# Altium integrated library WE-FLEX_rev15a.intlib: 25 symbols
Pins are listed as number, name and electrical type; pins without a type are passive.

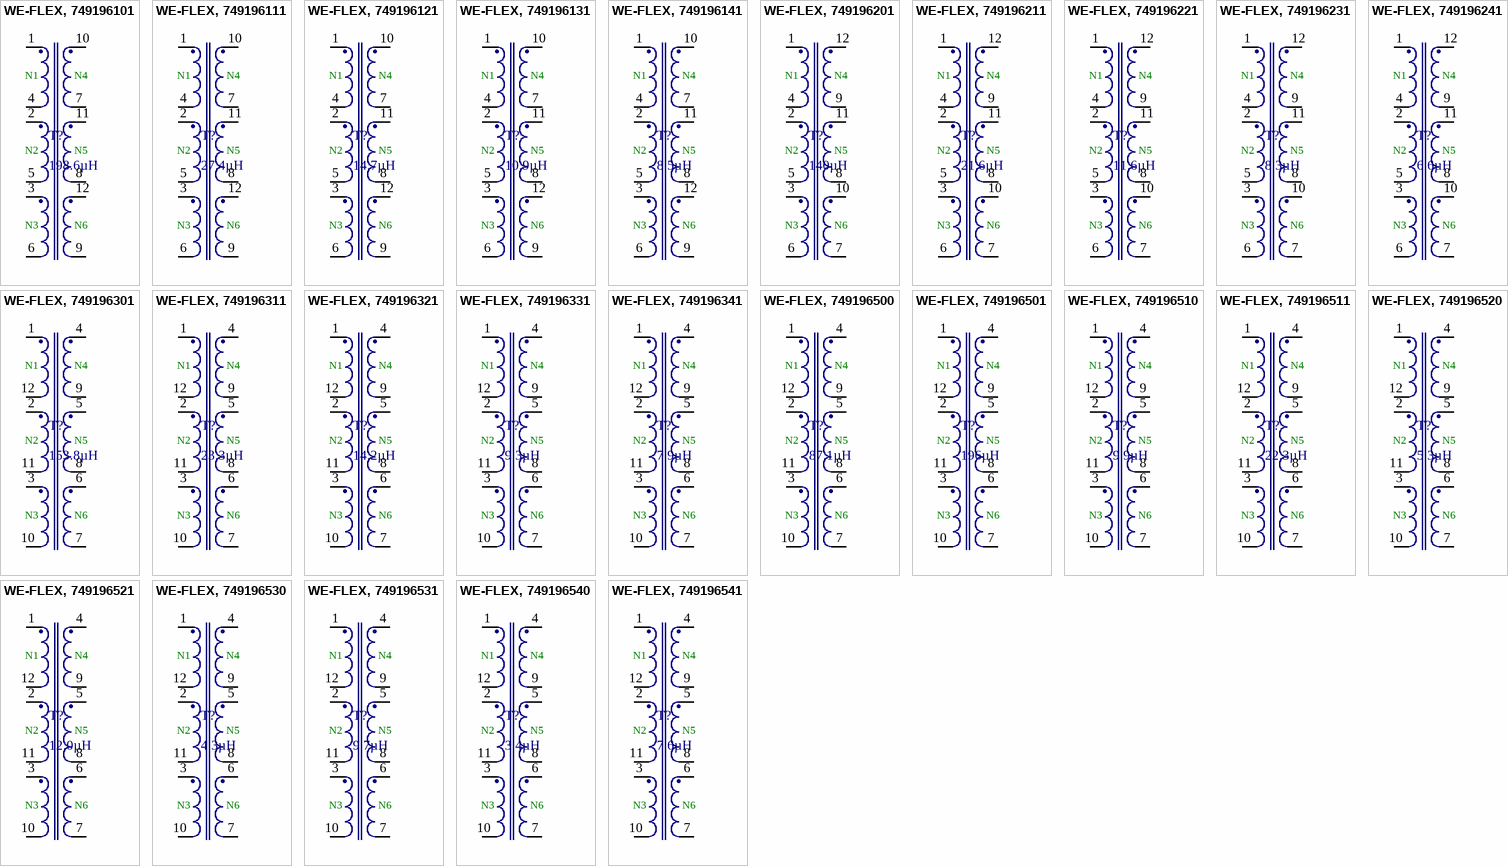
[diagram p0: symbols WE-FLEX, 749196101 to WE-FLEX, 749196541]

## WE-FLEX, 749196101
designator T?, comment 198.6µH
Flexible Transformer for DC/DC Converter WE-FLEX, L=198.6µH; PartNo: 749196101; Manufacturer: Würth Elektronik eiSos GmbH; Lbase: 198.6µH; ComponentLink1Description: Manufacturer; ComponentLink1URL: http://www.we-online.de; Created by: Otto Christin; Created Date: OCT 2013; ComponentLink2Description: Datasheet; ComponentLink2URL: http://www.we-online.de/katalog/media/pdf/749196101.pdf
footprint ER11/5 (SMD, 12-Leads, Body 12.9x9.2mm (max), Pitch 2.00mm, IPC Medium Density)
pins: 1, 2, 3, 4, 5, 6, 7, 8, 9, 10, 11, 12
text: N1; N4; N2; N5; N3; N6

## WE-FLEX, 749196111
designator T?, comment 27.4µH
Flexible Transformer for DC/DC Converter WE-FLEX, L=27.4µH; PartNo: 749196111; Manufacturer: Würth Elektronik eiSos GmbH; Lbase: 27.4µH; ComponentLink1Description: Manufacturer; ComponentLink1URL: http://www.we-online.de; Created by: Otto Christin; Created Date: OCT 2013; ComponentLink2Description: Datasheet; ComponentLink2URL: http://www.we-online.de/katalog/media/pdf/749196101.pdf
footprint ER11/5 (SMD, 12-Leads, Body 12.9x9.2mm (max), Pitch 2.00mm, IPC Medium Density)
pins: 1, 2, 3, 4, 5, 6, 7, 8, 9, 10, 11, 12
text: N1; N4; N2; N5; N3; N6

## WE-FLEX, 749196121
designator T?, comment 14.7µH
Flexible Transformer for DC/DC Converter WE-FLEX, L=14.7µH; PartNo: 749196121; Manufacturer: Würth Elektronik eiSos GmbH; Lbase: 14.7µH; ComponentLink1Description: Manufacturer; ComponentLink1URL: http://www.we-online.de; Created by: Otto Christin; Created Date: OCT 2013; ComponentLink2Description: Datasheet; ComponentLink2URL: http://www.we-online.de/katalog/media/pdf/749196121.pdf
footprint ER11/5 (SMD, 12-Leads, Body 12.9x9.2mm (max), Pitch 2.00mm, IPC Medium Density)
pins: 1, 2, 3, 4, 5, 6, 7, 8, 9, 10, 11, 12
text: N1; N4; N2; N5; N3; N6

## WE-FLEX, 749196131
designator T?, comment 10.9µH
Flexible Transformer for DC/DC Converter WE-FLEX, L=10.9µH; PartNo: 749196131; Manufacturer: Würth Elektronik eiSos GmbH; Lbase: 10.9µH; ComponentLink1Description: Manufacturer; ComponentLink1URL: http://www.we-online.de; Created by: Otto Christin; Created Date: OCT 2013; ComponentLink2Description: Datasheet; ComponentLink2URL: http://www.we-online.de/katalog/media/pdf/749196131.pdf
footprint ER11/5 (SMD, 12-Leads, Body 12.9x9.2mm (max), Pitch 2.00mm, IPC Medium Density)
pins: 1, 2, 3, 4, 5, 6, 7, 8, 9, 10, 11, 12
text: N1; N4; N2; N5; N3; N6

## WE-FLEX, 749196141
designator T?, comment 8.5µH
Flexible Transformer for DC/DC Converter WE-FLEX, L=8.5µH; PartNo: 749196141; Manufacturer: Würth Elektronik eiSos GmbH; Lbase: 8.5µH; ComponentLink1Description: Manufacturer; ComponentLink1URL: http://www.we-online.de; Created by: Otto Christin; Created Date: OCT 2013; ComponentLink2Description: Datasheet; ComponentLink2URL: http://www.we-online.de/katalog/media/pdf/749196141.pdf
footprint ER11/5 (SMD, 12-Leads, Body 12.9x9.2mm (max), Pitch 2.00mm, IPC Medium Density)
pins: 1, 2, 3, 4, 5, 6, 7, 8, 9, 10, 11, 12
text: N1; N4; N2; N5; N3; N6

## WE-FLEX, 749196201
designator T?, comment 140µH
Flexible Transformer for DC/DC Converter WE-FLEX, L=140µH; PartNo: 749196201; Manufacturer: Würth Elektronik eiSos GmbH; Lbase: 140µH; ComponentLink1Description: Manufacturer; ComponentLink1URL: http://www.we-online.de; Created by: Otto Christin; Created Date: OCT 2013; ComponentLink2Description: Datasheet; ComponentLink2URL: http://www.we-online.de/katalog/media/pdf/749196201.pdf
footprint ER14.5/6 (SMD, 12-Leads, Body 16.3x12.0mm (max), Pitch 2.50mm, IPC Medium Density)
pins: 1, 2, 3, 4, 5, 6, 7, 8, 9, 10, 11, 12
text: N1; N4; N2; N5; N3; N6

## WE-FLEX, 749196211
designator T?, comment 21.6µH
Flexible Transformer for DC/DC Converter WE-FLEX, L=21.6µH; PartNo: 749196211; Manufacturer: Würth Elektronik eiSos GmbH; Lbase: 21.6µH; ComponentLink1Description: Manufacturer; ComponentLink1URL: http://www.we-online.de; Created by: Otto Christin; Created Date: OCT 2013; ComponentLink2Description: Datasheet; ComponentLink2URL: http://www.we-online.de/katalog/media/pdf/749196211.pdf
footprint ER14.5/6 (SMD, 12-Leads, Body 16.3x12.0mm (max), Pitch 2.50mm, IPC Medium Density)
pins: 1, 2, 3, 4, 5, 6, 7, 8, 9, 10, 11, 12
text: N1; N4; N2; N5; N3; N6

## WE-FLEX, 749196221
designator T?, comment 11.6µH
Flexible Transformer for DC/DC Converter WE-FLEX, L=11.6µH; PartNo: 749196221; Manufacturer: Würth Elektronik eiSos GmbH; Lbase: 11.6µH; ComponentLink1Description: Manufacturer; ComponentLink1URL: http://www.we-online.de; Created by: Otto Christin; Created Date: OCT 2013; ComponentLink2Description: Datasheet; ComponentLink2URL: http://www.we-online.de/katalog/media/pdf/749196221.pdf
footprint ER14.5/6 (SMD, 12-Leads, Body 16.3x12.0mm (max), Pitch 2.50mm, IPC Medium Density)
pins: 1, 2, 3, 4, 5, 6, 7, 8, 9, 10, 11, 12
text: N1; N4; N2; N5; N3; N6

## WE-FLEX, 749196231
designator T?, comment 8.3µH
Flexible Transformer for DC/DC Converter WE-FLEX, L=8.3µH; PartNo: 749196231; Manufacturer: Würth Elektronik eiSos GmbH; Lbase: 8.3µH; ComponentLink1Description: Manufacturer; ComponentLink1URL: http://www.we-online.de; Created by: Otto Christin; Created Date: OCT 2013; ComponentLink2Description: Datasheet; ComponentLink2URL: http://www.we-online.de/katalog/media/pdf/749196231.pdf
footprint ER14.5/6 (SMD, 12-Leads, Body 16.3x12.0mm (max), Pitch 2.50mm, IPC Medium Density)
pins: 1, 2, 3, 4, 5, 6, 7, 8, 9, 10, 11, 12
text: N1; N4; N2; N5; N3; N6

## WE-FLEX, 749196241
designator T?, comment 6.6µH
Flexible Transformer for DC/DC Converter WE-FLEX, L=6.6µH; PartNo: 749196241; Manufacturer: Würth Elektronik eiSos GmbH; Lbase: 6.6µH; ComponentLink1Description: Manufacturer; ComponentLink1URL: http://www.we-online.de; Created by: Otto Christin; Created Date: OCT 2013; ComponentLink2Description: Datasheet; ComponentLink2URL: http://www.we-online.de/katalog/media/pdf/749196241.pdf
footprint ER14.5/6 (SMD, 12-Leads, Body 16.3x12.0mm (max), Pitch 2.50mm, IPC Medium Density)
pins: 1, 2, 3, 4, 5, 6, 7, 8, 9, 10, 11, 12
text: N1; N4; N2; N5; N3; N6

## WE-FLEX, 749196301
designator T?, comment 153.8µH
Flexible Transformer for DC/DC Converter WE-FLEX, L=153.8µH; PartNo: 749196301; Manufacturer: Würth Elektronik eiSos GmbH; Lbase: 153.8µH; ComponentLink1Description: Manufacturer; ComponentLink1URL: http://www.we-online.de; Created by: Otto Christin; Created Date: OCT 2013; ComponentLink2Description: Datasheet; ComponentLink2URL: http://www.we-online.de/katalog/media/pdf/749196301.pdf
footprint EFD15 (SMD, 12-Leads, Body 17.5x16.0mm (max), Pitch 2.50mm, IPC Medium Density)
pins: 1, 2, 3, 4, 5, 6, 7, 8, 9, 10, 11, 12
text: N1; N4; N2; N5; N3; N6

## WE-FLEX, 749196311
designator T?, comment 23.3µH
Flexible Transformer for DC/DC Converter WE-FLEX, L=23.3µH; PartNo: 749196311; Manufacturer: Würth Elektronik eiSos GmbH; Lbase: 23.3µH; ComponentLink1Description: Manufacturer; ComponentLink1URL: http://www.we-online.de; Created by: Otto Christin; Created Date: OCT 2013; ComponentLink2Description: Datasheet; ComponentLink2URL: http://www.we-online.de/katalog/media/pdf/749196301.pdf
footprint EFD15 (SMD, 12-Leads, Body 17.5x16.0mm (max), Pitch 2.50mm, IPC Medium Density)
pins: 1, 2, 3, 4, 5, 6, 7, 8, 9, 10, 11, 12
text: N1; N4; N2; N5; N3; N6

## WE-FLEX, 749196321
designator T?, comment 14.2µH
Flexible Transformer for DC/DC Converter WE-FLEX, L=14.2µH; PartNo: 749196321; Manufacturer: Würth Elektronik eiSos GmbH; Lbase: 14.2µH; ComponentLink1Description: Manufacturer; ComponentLink1URL: http://www.we-online.de; Created by: Otto Christin; Created Date: OCT 2013; ComponentLink2Description: Datasheet; ComponentLink2URL: http://www.we-online.de/katalog/media/pdf/749196321.pdf
footprint EFD15 (SMD, 12-Leads, Body 17.5x16.0mm (max), Pitch 2.50mm, IPC Medium Density)
pins: 1, 2, 3, 4, 5, 6, 7, 8, 9, 10, 11, 12
text: N1; N4; N2; N5; N3; N6

## WE-FLEX, 749196331
designator T?, comment 9.3µH
Flexible Transformer for DC/DC Converter WE-FLEX, L=9.3µH; PartNo: 749196331; Manufacturer: Würth Elektronik eiSos GmbH; Lbase: 9.3µH; ComponentLink1Description: Manufacturer; ComponentLink1URL: http://www.we-online.de; Created by: Otto Christin; Created Date: OCT 2013; ComponentLink2Description: Datasheet; ComponentLink2URL: http://www.we-online.de/katalog/media/pdf/749196331.pdf
footprint EFD15 (SMD, 12-Leads, Body 17.5x16.0mm (max), Pitch 2.50mm, IPC Medium Density)
pins: 1, 2, 3, 4, 5, 6, 7, 8, 9, 10, 11, 12
text: N1; N4; N2; N5; N3; N6

## WE-FLEX, 749196341
designator T?, comment 7.9µH
Flexible Transformer for DC/DC Converter WE-FLEX, L=7.9µH; PartNo: 749196341; Manufacturer: Würth Elektronik eiSos GmbH; Lbase: 7.9µH; ComponentLink1Description: Manufacturer; ComponentLink1URL: http://www.we-online.de; Created by: Otto Christin; Created Date: OCT 2013; ComponentLink2Description: Datasheet; ComponentLink2URL: http://www.we-online.de/katalog/media/pdf/749196341.pdf
footprint EFD15 (SMD, 12-Leads, Body 17.5x16.0mm (max), Pitch 2.50mm, IPC Medium Density)
pins: 1, 2, 3, 4, 5, 6, 7, 8, 9, 10, 11, 12
text: N1; N4; N2; N5; N3; N6

## WE-FLEX, 749196500
designator T?, comment 87.1µH
Flexible Transformer for DC/DC Converter WE-FLEX, L=87.1µH; PartNo: 749196500; Manufacturer: Würth Elektronik eiSos GmbH; Lbase: 87.1µH; ComponentLink1Description: Manufacturer; ComponentLink1URL: http://www.we-online.de; Created by: Otto Christin; Created Date: OCT 2013; ComponentLink2Description: Datasheet; ComponentLink2URL: http://www.we-online.de/katalog/media/pdf/749196500.pdf
footprint EFD20 (SMD, 12-Leads, Body 21.0x21.0mm (max), Pitch 3.00mm, IPC Medium Density)
pins: 1, 2, 3, 4, 5, 6, 7, 8, 9, 10, 11, 12
text: N1; N4; N2; N5; N3; N6

## WE-FLEX, 749196501
designator T?, comment 196µH
Flexible Transformer for DC/DC Converter WE-FLEX, L=196µH; PartNo: 749196501; Manufacturer: Würth Elektronik eiSos GmbH; Lbase: 196µH; ComponentLink1Description: Manufacturer; ComponentLink1URL: http://www.we-online.de; Created by: Otto Christin; Created Date: OCT 2013; ComponentLink2Description: Datasheet; ComponentLink2URL: http://www.we-online.de/katalog/media/pdf/749196501.pdf
footprint EFD20 (SMD, 12-Leads, Body 21.0x21.0mm (max), Pitch 3.00mm, IPC Medium Density)
pins: 1, 2, 3, 4, 5, 6, 7, 8, 9, 10, 11, 12
text: N1; N4; N2; N5; N3; N6

## WE-FLEX, 749196510
designator T?, comment 9.9µH
Flexible Transformer for DC/DC Converter WE-FLEX, L=9.9µH; PartNo: 749196510; Manufacturer: Würth Elektronik eiSos GmbH; Lbase: 9.9µH; ComponentLink1Description: Manufacturer; ComponentLink1URL: http://www.we-online.de; Created by: Otto Christin; Created Date: OCT 2013; ComponentLink2Description: Datasheet; ComponentLink2URL: http://www.we-online.de/katalog/media/pdf/749196510.pdf
footprint EFD20 (SMD, 12-Leads, Body 21.0x21.0mm (max), Pitch 3.00mm, IPC Medium Density)
pins: 1, 2, 3, 4, 5, 6, 7, 8, 9, 10, 11, 12
text: N1; N4; N2; N5; N3; N6

## WE-FLEX, 749196511
designator T?, comment 22.3µH
Flexible Transformer for DC/DC Converter WE-FLEX, L=22.3µH; PartNo: 749196511; Manufacturer: Würth Elektronik eiSos GmbH; Lbase: 22.3µH; ComponentLink1Description: Manufacturer; ComponentLink1URL: http://www.we-online.de; Created by: Otto Christin; Created Date: OCT 2013; ComponentLink2Description: Datasheet; ComponentLink2URL: http://www.we-online.de/katalog/media/pdf/749196511.pdf
footprint EFD20 (SMD, 12-Leads, Body 21.0x21.0mm (max), Pitch 3.00mm, IPC Medium Density)
pins: 1, 2, 3, 4, 5, 6, 7, 8, 9, 10, 11, 12
text: N1; N4; N2; N5; N3; N6

## WE-FLEX, 749196520
designator T?, comment 5.3µH
Flexible Transformer for DC/DC Converter WE-FLEX, L=5.3µH; PartNo: 749196520; Manufacturer: Würth Elektronik eiSos GmbH; Lbase: 5.3µH; ComponentLink1Description: Manufacturer; ComponentLink1URL: http://www.we-online.de; Created by: Otto Christin; Created Date: OCT 2013; ComponentLink2Description: Datasheet; ComponentLink2URL: http://www.we-online.de/katalog/media/pdf/749196520.pdf
footprint EFD20 (SMD, 12-Leads, Body 21.0x21.0mm (max), Pitch 3.00mm, IPC Medium Density)
pins: 1, 2, 3, 4, 5, 6, 7, 8, 9, 10, 11, 12
text: N1; N4; N2; N5; N3; N6

## WE-FLEX, 749196521
designator T?, comment 12.0µH
Flexible Transformer for DC/DC Converter WE-FLEX, L=12.0µH; PartNo: 749196521; Manufacturer: Würth Elektronik eiSos GmbH; Lbase: 12.0µH; ComponentLink1Description: Manufacturer; ComponentLink1URL: http://www.we-online.de; Created by: Otto Christin; Created Date: OCT 2013; ComponentLink2Description: Datasheet; ComponentLink2URL: http://www.we-online.de/katalog/media/pdf/749196521.pdf
footprint EFD20 (SMD, 12-Leads, Body 21.0x21.0mm (max), Pitch 3.00mm, IPC Medium Density)
pins: 1, 2, 3, 4, 5, 6, 7, 8, 9, 10, 11, 12
text: N1; N4; N2; N5; N3; N6

## WE-FLEX, 749196530
designator T?, comment 4.3µH
Flexible Transformer for DC/DC Converter WE-FLEX, L=4.3µH; PartNo: 749196530; Manufacturer: Würth Elektronik eiSos GmbH; Lbase: 4.3µH; ComponentLink1Description: Manufacturer; ComponentLink1URL: http://www.we-online.de; Created by: Otto Christin; Created Date: OCT 2013; ComponentLink2Description: Datasheet; ComponentLink2URL: http://www.we-online.de/katalog/media/pdf/749196530.pdf
footprint EFD20 (SMD, 12-Leads, Body 21.0x21.0mm (max), Pitch 3.00mm, IPC Medium Density)
pins: 1, 2, 3, 4, 5, 6, 7, 8, 9, 10, 11, 12
text: N1; N4; N2; N5; N3; N6

## WE-FLEX, 749196531
designator T?, comment 9.7µH
Flexible Transformer for DC/DC Converter WE-FLEX, L=9.7µH; PartNo: 749196531; Manufacturer: Würth Elektronik eiSos GmbH; Lbase: 9.7µH; ComponentLink1Description: Manufacturer; ComponentLink1URL: http://www.we-online.de; Created by: Otto Christin; Created Date: OCT 2013; ComponentLink2Description: Datasheet; ComponentLink2URL: http://www.we-online.de/katalog/media/pdf/749196531.pdf
footprint EFD20 (SMD, 12-Leads, Body 21.0x21.0mm (max), Pitch 3.00mm, IPC Medium Density)
pins: 1, 2, 3, 4, 5, 6, 7, 8, 9, 10, 11, 12
text: N1; N4; N2; N5; N3; N6

## WE-FLEX, 749196540
designator T?, comment 3.4µH
Flexible Transformer for DC/DC Converter WE-FLEX, L=3.4µH; PartNo: 749196540; Manufacturer: Würth Elektronik eiSos GmbH; Lbase: 3.4µH; ComponentLink1Description: Manufacturer; ComponentLink1URL: http://www.we-online.de; Created by: Otto Christin; Created Date: OCT 2013; ComponentLink2Description: Datasheet; ComponentLink2URL: http://www.we-online.de/katalog/media/pdf/749196540.pdf
footprint EFD20 (SMD, 12-Leads, Body 21.0x21.0mm (max), Pitch 3.00mm, IPC Medium Density)
pins: 1, 2, 3, 4, 5, 6, 7, 8, 9, 10, 11, 12
text: N1; N4; N2; N5; N3; N6

## WE-FLEX, 749196541
designator T?, comment 7.6µH
Flexible Transformer for DC/DC Converter WE-FLEX, L=7.6µH; PartNo: 749196541; Manufacturer: Würth Elektronik eiSos GmbH; Lbase: 7.6µH; ComponentLink1Description: Manufacturer; ComponentLink1URL: http://www.we-online.de; Created by: Otto Christin; Created Date: OCT 2013; ComponentLink2Description: Datasheet; ComponentLink2URL: http://www.we-online.de/katalog/media/pdf/749196541.pdf
footprint EFD20 (SMD, 12-Leads, Body 21.0x21.0mm (max), Pitch 3.00mm, IPC Medium Density)
pins: 1, 2, 3, 4, 5, 6, 7, 8, 9, 10, 11, 12
text: N1; N4; N2; N5; N3; N6